# Altium schematic symbol library LM2596BB.SchLib: 1 symbol
Pins are listed as number, name and electrical type; pins without a type are passive.

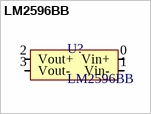
[diagram p0: symbol LM2596BB]

## LM2596BB
designator U?
pins: 0 Vin+, 1 Vin-, 2 Vout+, 3 Vout-